# Altium footprint library extension.PcbLib: 33 footprints (part 2 of 3)
Each footprint in its own frame and in the unit in brackets; x right, y up, seen from the top. Pads: shape width x height; smd on the part's side, far side on the other; paste and mask are expansions set on the pad; w line width, h text height; cw(c..) or ccw(c..) is an arc to the next point about the centre after c.
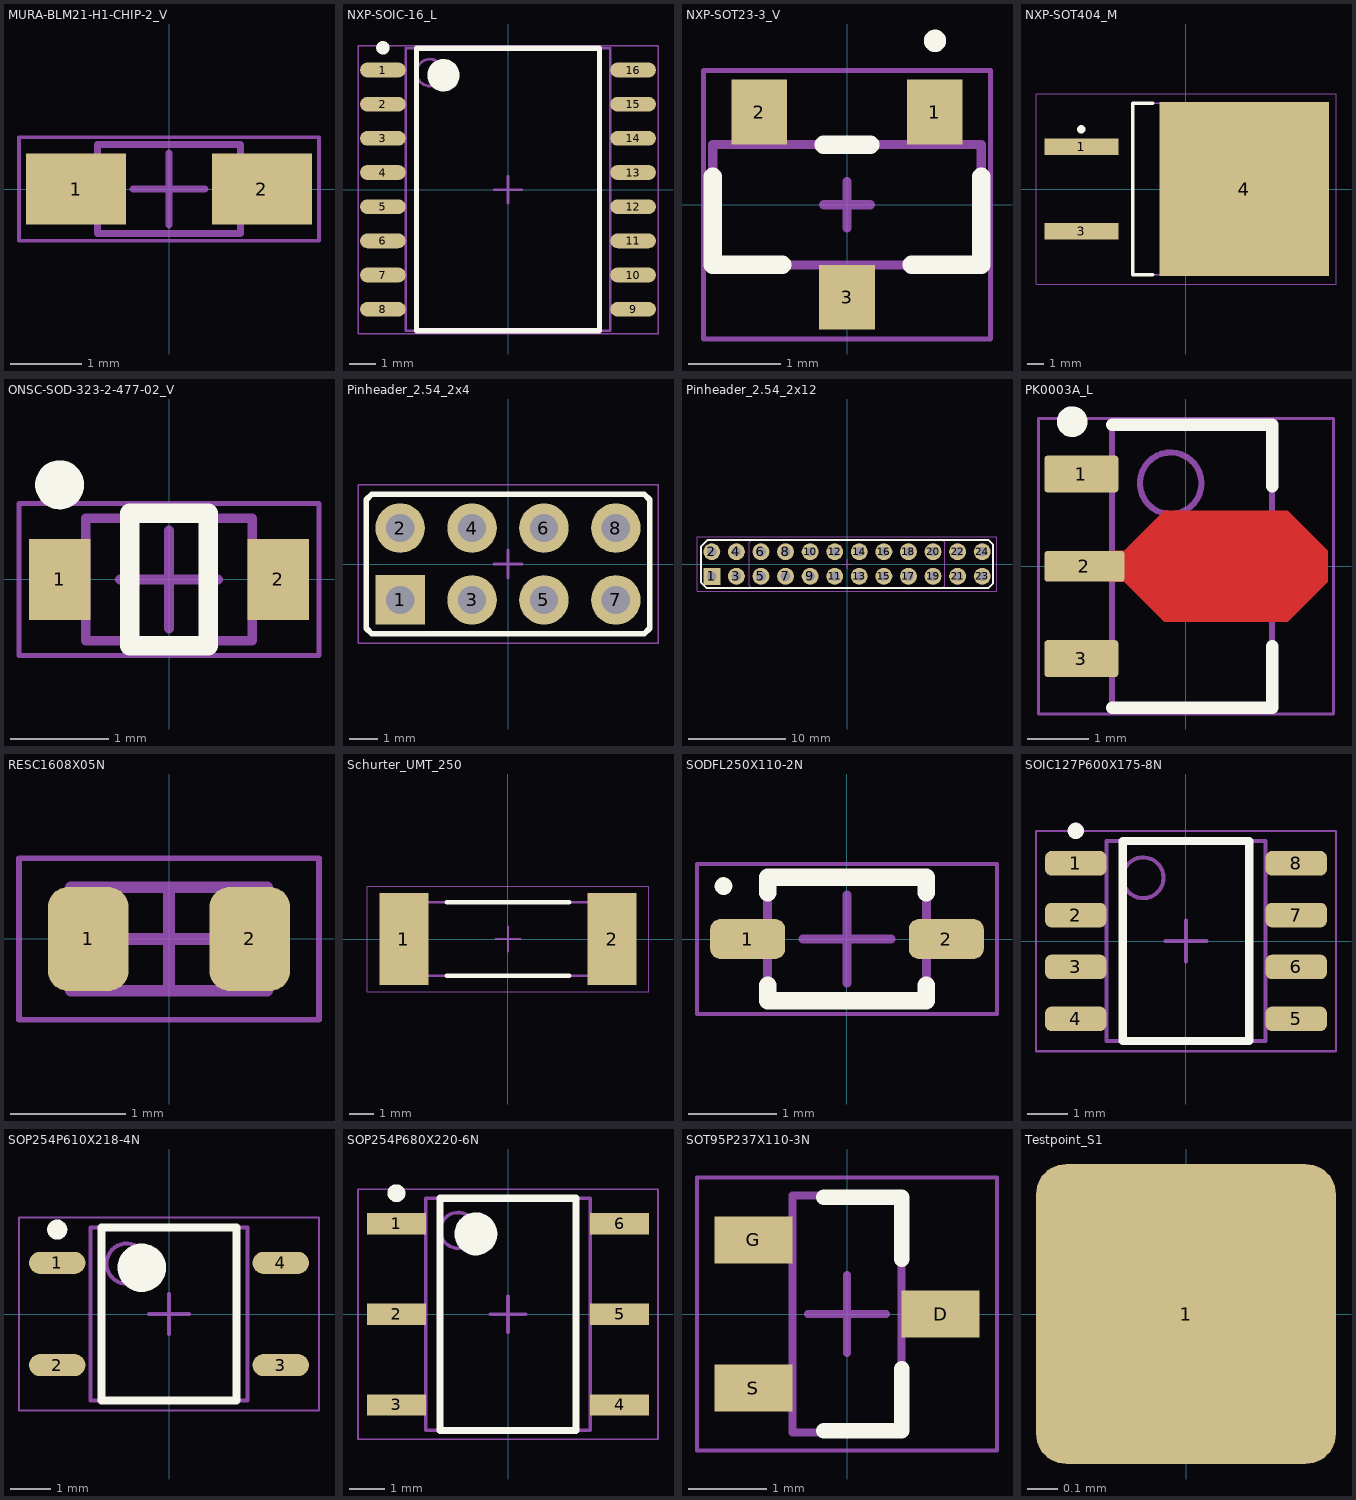
[diagram p1: the footprints below, top view; thin cyan lines are the x and y axes]

## MURA-BLM21-H1-CHIP-2_V [mm] "Chip Ferrite Bead, 2-Leads, Body 2x1.25mm, Height 1.05mm"
height 1.05
pads (2):
  rect 1.4x1 smd: 1(-1.3,0) 2(1.3,0)
Mechanical 13:
  lines w0.1: -1,-0.625 -1,0.625 1,0.625 1,-0.625 -1,-0.625
Mechanical 15:
  lines w0.05: -2.1,-0.725 2.1,-0.725 2.1,0.725 -2.1,0.725 -2.1,-0.725
  lines w0.1: -0.5,0 0.5,0 ; 0,-0.5 0,0.5
3D body: height 1.05, standoff 0, extent -1,-0.625 1,0.625

## NXP-SOIC-16_L [mm] "SOIC, 16-Leads, Body 10.5x7.6mm, Pitch 1.27mm, IPC High Density"
height 2.65
pads (16):
  oval 1.7x0.55 smd: 1(-4.65,4.445) 2(-4.65,3.175) 3(-4.65,1.905) 4(-4.65,0.635) 5(-4.65,-0.635) 6(-4.65,-1.905) 7(-4.65,-3.175) 8(-4.65,-4.445) 9(4.65,-4.445) 10(4.65,-3.175) 11(4.65,-1.905) 12(4.65,-0.635) 13(4.65,0.635) 14(4.65,1.905) 15(4.65,3.175) 16(4.65,4.445)
Top Overlay:
  circle w0.25: c-4.65,5.27 r0.125
  circle w0.6: c-2.4,4.25 r0.3
  lines w0.2: -3.4,-5.25 -3.4,5.25 3.4,5.25 3.4,-5.25 -3.4,-5.25
Mechanical 13:
  circle w0.1: c-2.9,4.35 r0.5
  lines w0.1: -3.8,-5.25 -3.8,5.25 3.8,5.25 3.8,-5.25 -3.8,-5.25
Mechanical 15:
  lines w0.05: -5.575,-5.35 -5.575,5.35 5.575,5.35 5.575,-5.35 -5.575,-5.35
  lines w0.1: -0.5,0 0.5,0 ; 0,-0.5 0,0.5
3D body "SOIC127P1030X265-16L.step": height 2.65, standoff 0, extent -5.162,-5.25 5.162,5.25

## NXP-SOT23-3_V [mm] "SOT23, 3-Leads, Body 1.3x2.9mm, Pitch 0.95mm"
height 1.1
pads (3):
  rect 0.6x0.7 smd paste-0.05: 1(0.95,1) 2(-0.95,1) 3(0,-1)
Top Overlay:
  circle w0.2: c0.95,1.77 r0.02
  lines w0.2: -1.45,0.304 -1.45,-0.65 -0.7,-0.65 ; -0.25,0.65 0.25,0.65 ; 0.7,-0.65 1.45,-0.65 1.45,0.304
Mechanical 13:
  lines w0.1: -1.45,-0.65 1.45,-0.65 1.45,0.65 -1.45,0.65 -1.45,-0.65
Mechanical 15:
  lines w0.05: -1.55,-1.45 -1.55,1.45 1.55,1.45 1.55,-1.45 -1.55,-1.45
  lines w0.1: -0.25,0 0.25,0 ; 0,-0.25 0,0.25
3D body: height 1.1, standoff 0, extent -1.45,-0.65 1.45,0.65

## NXP-SOT404_M [mm] "DPAK, 3-Leads, Body 10.3x9.8mm, Pitch 2.54mm, IPC Low Density"
height 4.5
pads (3):
  rect 4.45x1 smd: 1(-6.3,2.54) 3(-6.3,-2.54)
  rect 10.2x10.45 smd: 4(3.5,0)
Top Overlay:
  circle w0.25: c-6.3,3.59 r0.125
  lines w0.2: -2,-5.15 -3.2,-5.15 -3.2,5.15 -2,5.15
Mechanical 13:
  lines w0.1: -3.2,-5.15 6.6,-5.15 6.6,5.15 -3.2,5.15 -3.2,-5.15
Mechanical 15:
  lines w0.05: -9.025,-5.725 9.025,-5.725 9.025,5.725 -9.025,5.725 -9.025,-5.725
  lines w0.1: -0.5,0 0.5,0 ; 0,-0.5 0,0.5
3D body: height 4.5, standoff 0, extent -3.2,-5.15 6.6,5.15

## ONSC-SOD-323-2-477-02_V [mm] "SOD, 2-Leads, Body 1.7x1.25mm"
height 1.062
pads (2):
  rect 0.63x0.83 smd: 1(-1.115,0) 2(1.115,0)
Top Overlay:
  circle w0.25: c-1.115,0.965 r0.125
  lines w0.2: -0.4,-0.675 0.4,-0.675 0.4,0.675 -0.4,0.675 -0.4,-0.675
Mechanical 13:
  lines w0.1: -0.85,-0.625 0.85,-0.625 0.85,0.625 -0.85,0.625 -0.85,-0.625
Mechanical 15:
  lines w0.05: -1.53,-0.775 1.53,-0.775 1.53,0.775 -1.53,0.775 -1.53,-0.775
  lines w0.1: -0.5,0 0.5,0 ; 0,-0.5 0,0.5
3D body: height 1.06, standoff 0, extent -0.85,-0.625 0.85,0.625

## Pinheader_2.54_2x4 [mm] "Pinheader, 2.54mm, gerade, 2-reihig"
height 8.7
pads (8):
  rect 1.75x1.75 hole 1: 1(-3.81,-1.27)
  round 1.75 hole 1: 2(-3.81,1.27) 3(-1.27,-1.27) 4(-1.27,1.27) 5(1.27,-1.27) 6(1.27,1.27) 7(3.81,-1.27) 8(3.81,1.27)
Top Overlay:
  lines w0.2: -5.01,-2.27 -4.81,-2.47 4.81,-2.47 5.01,-2.27 5.01,2.27 4.81,2.47 -4.81,2.47 -5.01,2.27 -5.01,-2.27
Mechanical 13:
  lines w0.1: -5.01,-2.27 -4.81,-2.47 4.81,-2.47 5.01,-2.27 5.01,2.27 4.81,2.47 -4.81,2.47 -5.01,2.27 -5.01,-2.27
Mechanical 15:
  lines w0.05: -5.3,-2.8 5.3,-2.8 5.3,2.8 -5.3,2.8 -5.3,-2.8
  lines w0.1: -0.5,0 0.5,0 ; 0,-0.5 0,0.5
3D body "stiftleiste_254_gerade_2x4.stp": height 8.74, standoff -2.86, extent -5.08,-2.54 5.08,2.54

## Pinheader_2.54_2x12 [mm] "Pinheader, 2.54mm, gerade, 2-reihig"
height 8.7
pads (24):
  rect 1.75x1.75 hole 1: 1(-13.97,-1.27)
  round 1.75 hole 1: 2(-13.97,1.27) 3(-11.43,-1.27) 4(-11.43,1.27) 5(-8.89,-1.27) 6(-8.89,1.27) 7(-6.35,-1.27) 8(-6.35,1.27) 9(-3.81,-1.27) 10(-3.81,1.27) 11(-1.27,-1.27) 12(-1.27,1.27) 13(1.27,-1.27) 14(1.27,1.27) 15(3.81,-1.27) 16(3.81,1.27) 17(6.35,-1.27) 18(6.35,1.27) 19(8.89,-1.27) 20(8.89,1.27) 21(11.43,-1.27) 22(11.43,1.27) 23(13.97,-1.27) 24(13.97,1.27)
Top Overlay:
  lines w0.2: -15.1,-1.9 -15.1,1.8 -14.43,2.47 14.63,2.47 15.1,2 15.1,-2 14.63,-2.47 -14.53,-2.47 -15.1,-1.9
Mechanical 13:
  lines w0.1: -10.09,-2.27 -10.09,2.27 -9.89,2.47 9.89,2.47 10.09,2.27 10.09,-2.27 9.89,-2.47 -9.89,-2.47 -10.09,-2.27
Mechanical 15:
  lines w0.05: -15.5,-2.8 -15.5,2.8 15.5,2.8 15.5,-2.8 -15.5,-2.8
  lines w0.1: -0.5,0 0.5,0 ; 0,-0.5 0,0.5
3D body "stiftleiste_254_gerade_2x8.stp": height 8.74, standoff -2.86, extent -10.16,-2.54 10.16,2.54
3D body "stiftleiste_254_gerade_2x2.stp": height 8.74, standoff -2.86, extent -15.24,-2.54 -10.16,2.54
3D body "stiftleiste_254_gerade_2x2.stp": height 8.74, standoff -2.86, extent 10.16,-2.54 15.24,2.54

## PK0003A_L [mm] "SOT89, 3-Leads, Body 4.6x2.6mm, Pitch 1.5mm, IPC High Density"
height 1.6
pads (3):
  rrect17% 1.2x0.6 smd: 1(-1.7,1.5) 3(-1.7,-1.5)
  rrect20% 1.3x0.5 smd: 2(-1.65,0)
Top Layer:
  region: -1,0.25 -0.35,0.9 1.65,0.9 2.3,0.25 2.3,-0.25 1.65,-0.9 -0.35,-0.9 -1,-0.25 -1.2,-0.25 -1.2,0.25
Top Overlay:
  circle w0.25: c-1.85,2.35 r0.125
  lines w0.2: -1.2,-2.3 1.4,-2.3 1.4,-1.3 ; -1.2,2.3 1.4,2.3 1.4,1.3
Mechanical 1:
  text ".Designator" at -0.254,0.381 h0.8
Mechanical 13:
  circle w0.1: c-0.25,1.35 r0.5
  lines w0.1: -1.2,-2.3 -1.2,2.3 1.4,2.3 1.4,-2.3 -1.2,-2.3
Mechanical 15:
  lines w0.05: -2.4,-2.4 -2.4,2.4 2.4,2.4 2.4,-2.4 -2.4,-2.4
  lines w0.1: -0.4,0 0.6,0 ; 0.1,-0.5 0.1,0.5
3D body "PK0003A.stp": height 1.6, standoff 0, extent -2.186,-2.3 2.186,2.3

## RESC1608X05N [mm] "Chip Resistor, 2-Leads, Body 1,60x0,80mm, IPC Medium Density"
height 0.45
pads (2):
  rrect50% 0.7x0.9 smd: 1(-0.7,0) 2(0.7,0)
Mechanical 13:
  lines w0.1: -0.85,-0.45 -0.85,0.45 0.85,0.45 0.85,-0.45 -0.85,-0.45
Mechanical 15:
  lines w0.05: -1.3,-0.7 -1.3,0.7 1.3,0.7 1.3,-0.7 -1.3,-0.7
  lines w0.1: -0.45,0 0.45,0 ; 0,-0.45 0,0.45
3D body "RESC1608X05N.step": height 0.45, standoff 0, extent -0.85,-0.45 0.85,0.45

## Schurter_UMT_250 [mm] "Schurter UMT 250 Series Fuse"
height 3
pads (2):
  rect 2x3.75 smd: 1(-4.25,0) 2(4.25,0)
Top Overlay:
  lines w0.2: -2.5,-1.5 2.5,-1.5 ; -2.5,1.5 2.5,1.5
Mechanical 13:
  lines w0.1: -5.05,-1.5 5.05,-1.5 5.05,1.5 -5.05,1.5 -5.05,-1.5
Mechanical 15:
  lines w0.05: -5.75,-2.15 5.75,-2.15 5.75,2.15 -5.75,2.15 -5.75,-2.15
  lines w0.1: -0.5,0 0.5,0 ; 0,-0.5 0,0.5
3D body "INDC10130X30N.step": height 3, standoff 0, extent -5.05,-1.5 5.05,1.5

## SODFL250X110-2N [mm] "SODFL, 2-Leads, Body 1,25x2,50mm, IPC Medium Density, SOD323"
height 1.1
pads (2):
  rrect50% 0.85x0.45 smd: 1(-1.125,0) 2(1.125,0)
Top Overlay:
  circle w0.1: c-1.4,0.6 r0.05
  lines w0.2: -0.9,-0.525 -0.9,-0.7 0.9,-0.7 0.9,-0.525 ; -0.9,0.525 -0.9,0.7 0.9,0.7 0.9,0.525
Mechanical 13:
  lines w0.1: -0.9,-0.675 0.9,-0.675 0.9,0.675 -0.9,0.675 -0.9,-0.675
Mechanical 15:
  lines w0.05: -1.7,-0.85 1.7,-0.85 1.7,0.85 -1.7,0.85 -1.7,-0.85
  lines w0.1: -0.5,0 0.5,0 ; 0,-0.5 0,0.5
3D body "SODFL250X110-2N.step": height 1.1, standoff 0, extent -1.25,-0.675 1.25,0.675

## SOIC127P600X175-8N [mm] "SOIC, 8-Leads, Body 4,90x3,90mm, Pitch 1,27mm, IPC Medium Density"
height 1.75
pads (8):
  rrect50% 1.5x0.6 smd: 1(-2.7,1.905) 2(-2.7,0.635) 3(-2.7,-0.635) 4(-2.7,-1.905) 5(2.7,-1.905) 6(2.7,-0.635) 7(2.7,0.635) 8(2.7,1.905)
Top Overlay:
  circle w0.2: c-2.7,2.7 r0.1
  lines w0.2: -1.55,-2.45 -1.55,2.45 1.55,2.45 1.55,-2.45 -1.55,-2.45
Mechanical 13:
  circle w0.1: c-1.05,1.55 r0.5
  lines w0.1: -1.95,-2.45 -1.95,2.45 1.95,2.45 1.95,-2.45 -1.95,-2.45
Mechanical 15:
  lines w0.05: -3.675,-2.7 -3.675,2.7 3.675,2.7 3.675,-2.7 -3.675,-2.7
  lines w0.1: -0.5,0 0.5,0 ; 0,-0.5 0,0.5
3D body "SOIC127P600X175-8N.step": height 1.75, standoff 0, extent -3,-2.45 3,2.45

## SOP254P610X218-4N [mm] "SOP, 4-Leads, Body 4,09x3,81mm, Pitch 2,54mm, IPC Medium Density"
height 2.19
pads (4):
  oval 1.4x0.55 smd: 1(-2.775,1.27) 2(-2.775,-1.27) 3(2.775,-1.27) 4(2.775,1.27)
Top Overlay:
  circle w0.6: c-0.675,1.15 r0.3
  circle w0.25: c-2.775,2.095 r0.125
  lines w0.2: -1.675,-2.15 1.675,-2.15 1.675,2.15 -1.675,2.15 -1.675,-2.15
Mechanical 13:
  circle w0.1: c-1.05,1.25 r0.5
  lines w0.1: -1.95,-2.15 1.95,-2.15 1.95,2.15 -1.95,2.15 -1.95,-2.15
Mechanical 15:
  lines w0.05: -3.725,-2.4 3.725,-2.4 3.725,2.4 -3.725,2.4 -3.725,-2.4
  lines w0.1: -0.5,0 0.5,0 ; 0,-0.5 0,0.5
3D body "SOP254P610X218-4N.step": height 2.18, standoff 0, extent -3.048,-2.15 3.048,2.15

## SOP254P680X220-6N [mm] "SOP, 6-Leads, Body 6,30x4,40mm, Pitch 2,54mm, IPC Medium Density"
height 2.2
pads (6):
  rect 1.65x0.6 smd: 1(-3.125,2.54) 2(-3.125,0) 3(-3.125,-2.54) 4(3.125,-2.54) 5(3.125,0) 6(3.125,2.54)
Top Overlay:
  circle w0.6: c-0.9,2.25 r0.3
  circle w0.25: c-3.125,3.39 r0.125
  lines w0.2: -1.9,-3.25 1.9,-3.25 1.9,3.25 -1.9,3.25 -1.9,-3.25
Mechanical 13:
  circle w0.1: c-1.4,2.35 r0.5
  lines w0.1: -2.3,-3.25 2.3,-3.25 2.3,3.25 -2.3,3.25 -2.3,-3.25
Mechanical 15:
  lines w0.05: -4.2,-3.5 4.2,-3.5 4.2,3.5 -4.2,3.5 -4.2,-3.5
  lines w0.1: -0.5,0 0.5,0 ; 0,-0.5 0,0.5
3D body "SOP254P680X220-6N.step": height 2.2, standoff 0, extent -3.4,-3.25 3.4,3.25

## SOT95P237X110-3N [mm] "SOT23, 3-Leads, Body 2,92x2,37mm, Pitch 0,95mm, IPC Medium Density"
height 1.1
pads (3):
  rect 1x0.6 smd: D(1.2,0) G(-1.2,0.95) S(-1.2,-0.95)
Top Overlay:
  lines w0.2: -0.3,-1.5 0.7,-1.5 0.7,-0.7 ; -0.3,1.5 0.7,1.5 0.7,0.7
Mechanical 13:
  lines w0.1: -0.7,-1.52 0.7,-1.52 0.7,1.52 -0.7,1.52 -0.7,-1.52
Mechanical 15:
  lines w0.05: -1.925,-1.75 1.925,-1.75 1.925,1.75 -1.925,1.75 -1.925,-1.75
  lines w0.1: -0.5,0 0.5,0 ; 0,-0.5 0,0.5
3D body "SOT95P237X110-3N.step": height 1.1, standoff 0, extent -1.32,-1.52 1.32,1.52

## Testpoint_S1 [mm] "Testpunkt, quardratisch 1mm"
pads (1):
  rrect20% 1x1 smd paste-0.5: 1(0,0)